# Altium footprint library L293D.PcbLib: 1 footprints
Each footprint in its own frame and in the unit in brackets; x right, y up, seen from the top. Pads: shape width x height; smd on the part's side, far side on the other; paste and mask are expansions set on the pad; w line width, h text height; cw(c..) or ccw(c..) is an arc to the next point about the centre after c.
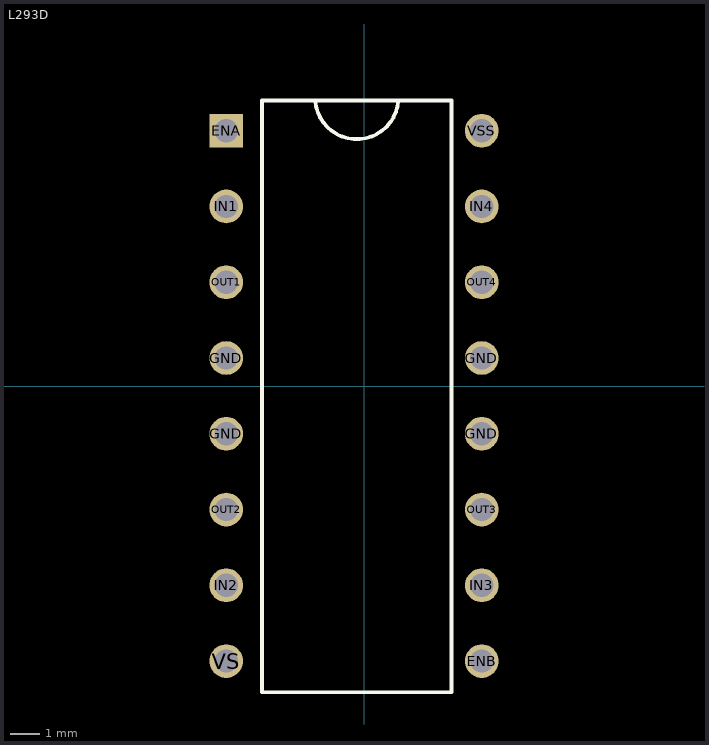
[diagram p0: the footprint, top view; thin cyan lines are the x and y axes]

## L293D [mm]
pads (16):
  rect 1.13x1.13 hole 0.78: ENA(-4.623,8.56)
  round 1.13 hole 0.78: ENB(3.945,-9.22) GND(-4.623,-1.6) GND(-4.623,0.94) GND(3.945,-1.6) GND(3.945,0.94) IN1(-4.623,6.02) IN2(-4.623,-6.68) IN3(3.945,-6.68) IN4(3.945,6.02) OUT1(-4.623,3.48) OUT2(-4.623,-4.14) OUT3(3.945,-4.14) OUT4(3.945,3.48) VS(-4.623,-9.22) VSS(3.945,8.56)
Top Overlay:
  lines w0.127: -3.429,-10.262 2.929,-10.262 2.929,9.55 ; -3.421,-10.262 -3.421,9.55 ; -3.421,9.576 2.929,9.576 ; -1.64,9.576 ccw(c-0.246,9.672) 1.148,9.576
3D body "L293D.STEP": height 6.37, standoff -2.03, extent -5.001,-10.33 4.24,9.67